# Altium schematic symbol library smdUtilities.SchLib: 114 symbols (part 2 of 2)
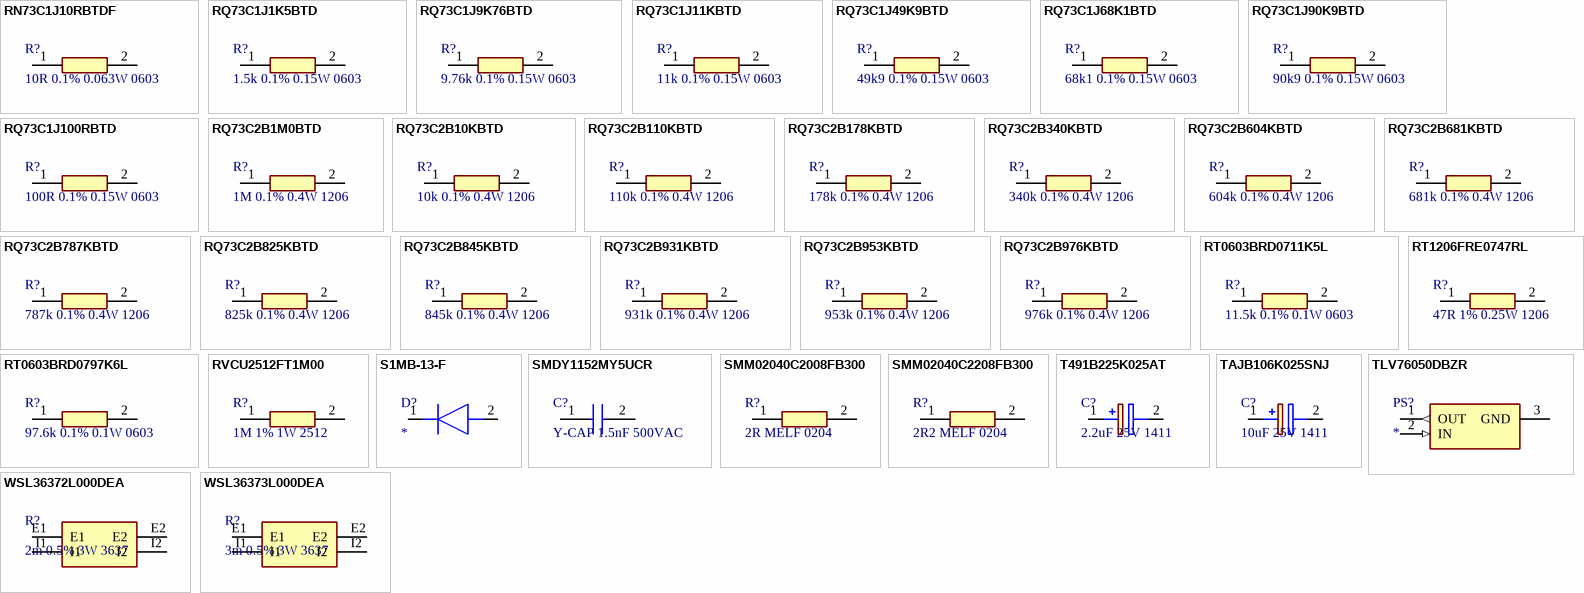
[diagram p3: symbols RN73C1J10RBTDF to WSL36373L000DEA]

## RQ73C2B845KBTD
designator R?, comment 845k 0.1% 0.4W 1206
RES 845 KOHM 0.1% 0.4W 1206; Manufacturer_Name: TE Connectivity; Manufacturer_Part_Number: RQ73C2B845KBTD; Datasheet Link: https://www.te.com/usa-en/product-8-2176392-2.datasheet.pdf; Height: 0.65mm; Mouser Part Number: 279-RQ73C2B845KBTD; Mouser Price/Stock: https://www.mouser.com.tr/ProductDetail/TE-Connectivity-Holsworthy/RQ73C2B931KBTD?qs=gZXFycFWdAO9E%2FMLcZM6Gg%3D%3D
footprint RESC3016X65N
pins: 1, 2

## RQ73C2B931KBTD
designator R?, comment 931k 0.1% 0.4W 1206
RES 931 KOHM 0.1% 0.4W 1206; Manufacturer_Name: TE Connectivity; Manufacturer_Part_Number: RQ73C2B931KBTD; Datasheet Link: https://www.te.com/usa-en/product-8-2176392-2.datasheet.pdf; Height: 0.65mm; Mouser Part Number: 279-RQ73C2B931KBTD; Mouser Price/Stock: https://www.mouser.com.tr/ProductDetail/TE-Connectivity-Holsworthy/RQ73C2B931KBTD?qs=gZXFycFWdAO9E%2FMLcZM6Gg%3D%3D
footprint RESC3016X65N
pins: 1, 2

## RQ73C2B953KBTD
designator R?, comment 953k 0.1% 0.4W 1206
RES 953 KOHM 0.1% 0.4W 1206; Manufacturer_Name: TE Connectivity; Manufacturer_Part_Number: RQ73C2B953KBTD; Datasheet Link: https://www.te.com/usa-en/product-8-2176392-3.datasheet.pdf; Height: 0.65mm; Mouser Part Number: 279-RQ73C2B953KBTD; Mouser Price/Stock: https://www.mouser.com.tr/ProductDetail/TE-Connectivity-Holsworthy/RQ73C2B953KBTD?qs=gZXFycFWdAOYB9tYIHl3Eg%3D%3D
footprint RESC3016X65N
pins: 1, 2

## RQ73C2B976KBTD
designator R?, comment 976k 0.1% 0.4W 1206
RES 976 KOHM 0.1% 0.4W 1206; Manufacturer_Name: TE Connectivity; Manufacturer_Part_Number: RQ73C2B976KBTD; Datasheet Link: https://www.te.com/usa-en/product-8-2176392-4.datasheet.pdf; Height: 0.65mm; Mouser Part Number: 279-RQ73C2B976KBTD; Mouser Price/Stock: https://www.mouser.com.tr/ProductDetail/TE-Connectivity-Holsworthy/RQ73C2B976KBTD?qs=gZXFycFWdAMmC0h%252BsoExcg%3D%3D; Arrow Part Number: RQ73C2B976KBTD; Arrow Price/Stock: https://www.arrow.com/en/products/rq73c2b976kbtd/te-connectivity?q=RQ73C2B976KBTD
footprint RESC3016X65N
pins: 1, 2

## RT0603BRD0711K5L
designator R?, comment 11.5k 0.1% 0.1W 0603
RES 11.5 KOHM 0.1% 1/10W 0603; Manufacturer_Name: Yageo Group; Manufacturer_Part_Number: RT0603BRD0711K5L; Datasheet Link: https://www.mouser.de/datasheet/3/508/1/PYu-RT_1-to-0.01_RoHS_L_15.pdf; Height: 0.55mm
footprint RESC1608X55N
pins: 1, 2

## RT0603BRD0797K6L
designator R?, comment 97.6k 0.1% 0.1W 0603
RES 97.6 KOHM 0.1% 1/10W 0603; Manufacturer_Name: Yageo Group; Manufacturer_Part_Number: RT0603BRD0797K6L; Datasheet Link: https://www.mouser.de/datasheet/3/508/1/PYu-RT_1-to-0.01_RoHS_L_15.pdf; Height: 0.55mm; Mouser Part Number: 603-RT0603BRD0797K6L; Mouser Price/Stock: http://www.mouser.com/Search/ProductDetail.aspx?qs=RdtoZj9ypxapytMSKrisGw%3d%3d
footprint RESC1608X55N
pins: 1, 2

## RT1206FRE0747RL
designator R?, comment 47R 1% 0.25W 1206
RES 47 OHM 1% 1/4W 1206; Manufacturer_Name: Yageo Group; Manufacturer_Part_Number: RT1206FRE0747RL; Datasheet Link: https://www.yageo.com/upload/media/product/products/datasheet/rchip/PYu-RT_1-to-0.01_RoHS_L_12.pdf; Height: 0.65mm; Mouser Part Number: 603-RT1206FRE0747RL; Mouser Price/Stock: https://www.mouser.co.uk/ProductDetail/YAGEO/RT1206FRE0747RL?qs=yNCrj0CQcyIkITzUBX4KQg%3D%3D
footprint RESC3116X65N
pins: 1, 2

## RVCU2512FT1M00
designator R?, comment 1M 1% 1W 2512
RES 1 MOHM 1% 1W 2512 HV; Manufacturer_Name: Stackpole Electronics; Manufacturer_Part_Number: RVCU2512FT1M00; Datasheet Link: https://www.seielect.com/catalog/SEI-RVCU.pdf; Height: 0.65mm
footprint RESC6332X65N
pins: 1, 2

## S1MB-13-F
designator D?
DIODE STANDARD 1000V 1A SMB; Manufacturer_Name: Diodes Incorporated; Manufacturer_Part_Number: S1MB-13-F; Datasheet Link: https://www.diodes.com/assets/Datasheets/ds16003.pdf; Height: 2.5mm; Mouser Part Number: 621-S1MB-F; Mouser Price/Stock: https://www.mouser.co.uk/ProductDetail/Diodes-Incorporated/S1MB-13-F?qs=01Y2WuGPBKUFrqqhCYs%252Bzg%3D%3D; Arrow Part Number: S1MB-13-F; Arrow Price/Stock: https://www.arrow.com/en/products/s1mb-13-f/diodes-incorporated?utm_currency=USD&region=nac
footprint DIOM5336X250N
pins: 1 K, 2 A

## SMDY1152MY5UCR
designator C?, comment Y-CAP 1.5nF 500VAC
CAP SMDY1 X760Y500VAC 1500PF 20% Y5U; Manufacturer_Name: Vishay; Manufacturer_Part_Number: SMDY1152MY5UCR; Datasheet Link: https://g.componentsearchengine.com/Datasheets/0/13605008.pdf; Height: 4mm; Mouser Part Number: 594-SMDY1152MY5UCR; Mouser Price/Stock: https://www.mouser.co.uk/ProductDetail/Vishay-BC-Components/SMDY1152MY5UCR?qs=zW32dvEIR3t2pBP6PNa9wg%3D%3D; Arrow Part Number: SMDY1152MY5UCR; Arrow Price/Stock: https://www.arrow.com/en/products/smdy1152my5ucr/vishay?region=nac
footprint SMDY1102MY5UCB
pins: 1, 2

## SMM02040C2008FB300
designator R?, comment 2R MELF 0204
RES 2 OHM 1% 1/4W MELF 0204; Manufacturer_Name: Vishay; Manufacturer_Part_Number: SMM02040C2008FB300; Datasheet Link: https://www.vishay.com/docs/20004/smm0204.pdf; Height: 1mm
footprint SMM02040D1501BB300
pins: 1, 2

## SMM02040C2208FB300
designator R?, comment 2R2 MELF 0204
RES 2.2 OHM 1% 1/4W MELF 0204; Manufacturer_Name: Vishay; Manufacturer_Part_Number: SMM02040C2208FB300; Datasheet Link: https://www.vishay.com/docs/20004/smm0204.pdf; Height: 1mm
footprint SMM02040D1501BB300
pins: 1, 2

## T491B225K025AT
designator C?, comment 2.2uF 25V 1411
CAP TANT 2.2UF 10% 25V 1411; Manufacturer_Name: KEMET; Manufacturer_Part_Number: T491B225K025AT; Datasheet Link: https://content.kemet.com/datasheets/KEM_T2005_T491.pdf; Height: 2.1mm; Mouser Part Number: 80-T491B225K025; Mouser Price/Stock: https://www.mouser.co.uk/ProductDetail/KEMET/T491B225K025AT?qs=ZETg8jUhDq9s%2F9Dguc3DgQ%3D%3D; Arrow Part Number: T491B225K025AT; Arrow Price/Stock: https://www.arrow.com/en/products/t491b225k025at/kemet-corporation?region=nac
footprint T491B
pins: 1 +, 2 -

## TAJB106K025SNJ
designator C?, comment 10uF 25V 1411
CAP TANT 10UF 10% 25V 1411; Manufacturer_Name: Kyocera AVX; Manufacturer_Part_Number: TAJB106K025SNJ; Datasheet Link: http://datasheets.avx.com/TAJ.pdf; Height: 2.1mm; Mouser Part Number: 581-TAJB106K025SNJ; Mouser Price/Stock: https://www.mouser.co.uk/ProductDetail/KYOCERA-AVX/TAJB106K025SNJ?qs=QtI0yD1FyOMvjoSceHF%252B6g%3D%3D; Arrow Part Number: TAJB106K025SNJ; Arrow Price/Stock: https://www.arrow.com/en/products/tajb106k025snj/avx
footprint CAPPM3528X210N
pins: 1 +, 2 -

## TLV76050DBZR
designator PS?
IC REG LINEAR 5V 100MA SOT23-3; Manufacturer_Name: Texas Instruments; Manufacturer_Part_Number: TLV76050DBZR; Datasheet Link: http://www.ti.com/lit/gpn/tlv760; Height: 1.12mm; Mouser Part Number: 595-TLV76050DBZR; Mouser Price/Stock: https://www.mouser.co.uk/ProductDetail/Texas-Instruments/TLV76050DBZR?qs=HXFqYaX1Q2wum5FdXU6CLA%3D%3D; Arrow Part Number: TLV76050DBZR; Arrow Price/Stock: https://www.arrow.com/en/products/tlv76050dbzr/texas-instruments?utm_currency=USD&region=nac
footprint SOT95P237X112-3N
pins: 1 OUT (out), 2 IN (in), 3 GND (power)

## WSL36372L000DEA
designator R?, comment 2m 0.5% 3W 3637
RES 2 mOHM Shunt 0.5% 3W 3637; Manufacturer_Name: Vishay; Manufacturer_Part_Number: WSL36372L000DEA; Datasheet Link: https://www.vishay.com/docs/30099/wsl3637.pdf; Height: 0.889mm; Mouser Part Number: 71-WSL36372L000DEA; Mouser Price/Stock: https://www.mouser.co.uk/ProductDetail/Vishay-Dale/WSL36372L000DEA?qs=d9nEWKVlhwvlxvlIm2jIgw%3D%3D; Arrow Part Number: WSL36372L000DEA; Arrow Price/Stock: https://www.arrow.com/en/products/wsl36372l000dea/vishay?utm_currency=USD&region=europe
footprint WSL36372L000DEA
pins: E1, E2, I1, I2

## WSL36373L000DEA
designator R?, comment 3m 0.5% 3W 3637
RES 3 mOHM Shunt 0.5% 3W 3637; Manufacturer_Name: Vishay; Manufacturer_Part_Number: WSL36373L000DEA; Datasheet Link: https://www.vishay.com/doc?30099; Height: 0.889mm; Mouser Part Number: 71-WSL36373L000DEA; Mouser Price/Stock: https://www.mouser.co.uk/ProductDetail/Vishay-Dale/WSL36373L000DEA?qs=eFWhpKjIuGjyH%2FtX8Uuaqw%3D%3D; Arrow Part Number: WSL36373L000DEA; Arrow Price/Stock: https://www.arrow.com/en/products/wsl36373l000dea/vishay?utm_currency=USD&region=nac
footprint WSL36373L000DEA
pins: E1, E2, I1, I2